# EAGLE library part PINHD-1X18 (library wsn)
PIN HEADER
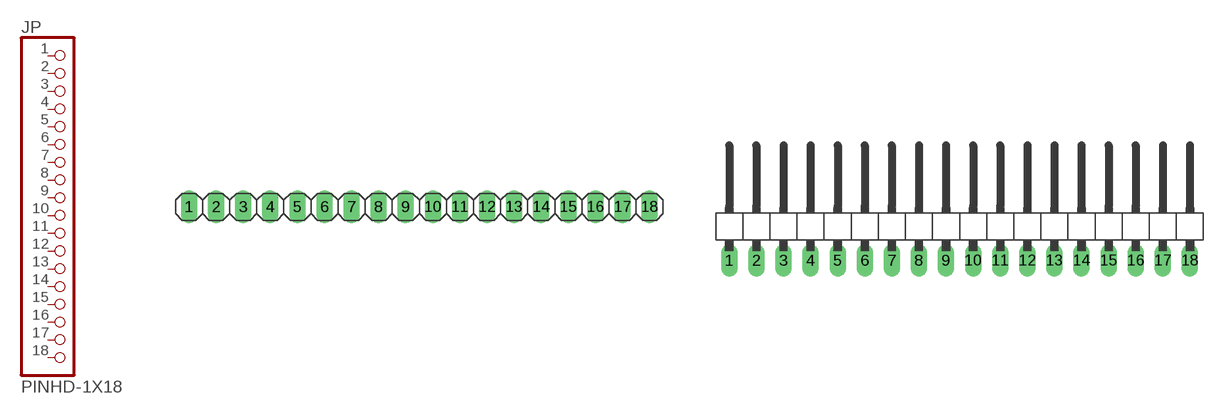
[diagram p28: symbol with the pads of 1X18; footprints 1X18, 1X18/90]

Designator prefix JP

## PINHD-1X18  [1X18]
1  1  pas
2  2  pas
3  3  pas
4  4  pas
5  5  pas
6  6  pas
7  7  pas
8  8  pas
9  9  pas
10  10  pas
11  11  pas
12  12  pas
13  13  pas
14  14  pas
15  15  pas
16  16  pas
17  17  pas
18  18  pas

## PINHD-1X18/90  [1X18/90]
Pads as for 1X18

## PINHD-1X181X18_SMT  [1X18_SMT]
Pads as for 1X18

## Footprint 1X18 (pad centres in mm)
PIN HEADER
drill 1.016 long: 1 -21.59,0; 2 -19.05,0; 3 -16.51,0; 4 -13.97,0; 5 -11.43,0; 6 -8.89,0; 7 -6.35,0; 8 -3.81,0; 9 -1.27,0; 10 1.27,0; 11 3.81,0; 12 6.35,0; 13 8.89,0; 14 11.43,0; 15 13.97,0; 16 16.51,0; 17 19.05,0; 18 21.59,0

## Footprint 1X18/90 (pad centres in mm)
PIN HEADER
drill 1.016 long: 1 -21.59,-3.81; 2 -19.05,-3.81; 3 -16.51,-3.81; 4 -13.97,-3.81; 5 -11.43,-3.81; 6 -8.89,-3.81; 7 -6.35,-3.81; 8 -3.81,-3.81; 9 -1.27,-3.81; 10 1.27,-3.81; 11 3.81,-3.81; 12 6.35,-3.81; 13 8.89,-3.81; 14 11.43,-3.81; 15 13.97,-3.81; 16 16.51,-3.81; 17 19.05,-3.81; 18 21.59,-3.81

## Footprint 1X18_SMT (pad centres in mm)
smd 1 x 2.5: 1 -21.59,1.52; 2 -19.05,-1.52; 3 -16.51,1.52; 4 -13.97,-1.52; 5 -11.43,1.52; 6 -8.89,-1.52; 7 -6.35,1.52; 8 -3.81,-1.52; 9 -1.27,1.52; 10 1.27,-1.52; 11 3.81,1.52; 12 6.35,-1.52; 13 8.89,1.52; 14 11.43,-1.52; 15 13.97,1.52; 16 16.51,-1.52; 17 19.05,1.52; 18 21.59,-1.52